# EAGLE library part RECEPTACLE-2X20-254MM (library comms)
.100” [2.54 mm] Contact Centers, 2x20 Female Header, Vertical/SMT
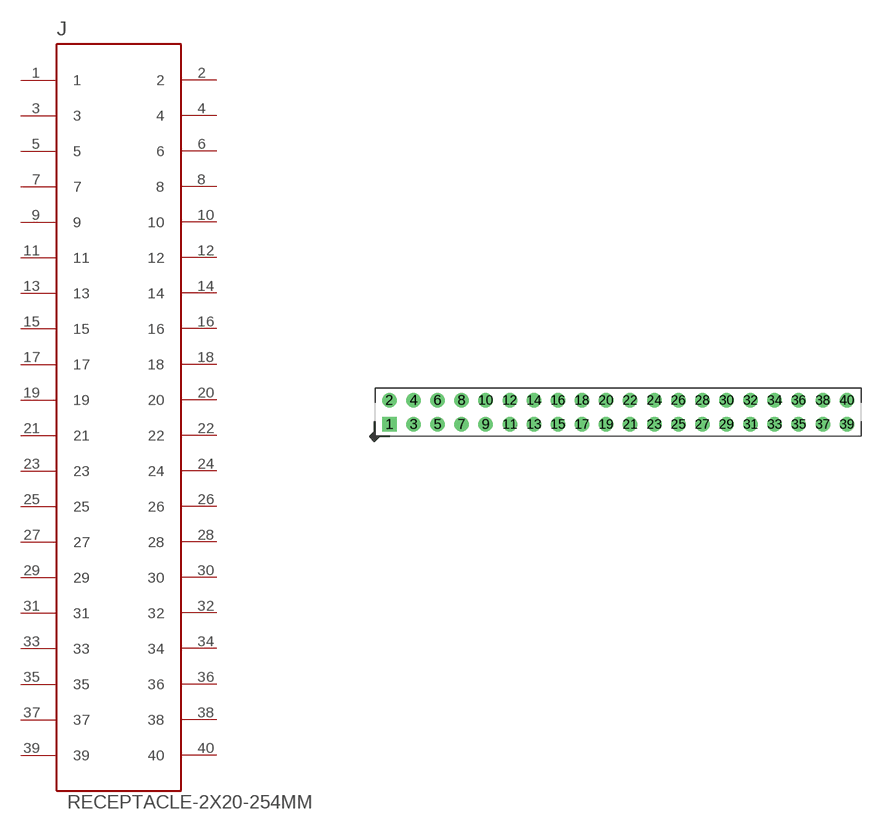
[diagram p9: symbol with the pads of HEADER-2X20-254MM; footprint HEADER-2X20-254MM]

Designator prefix J

## RECEPTACLE-2X20-254MM (FINISH: Gold; MANUFACTURER: Sullins Connector Solutions; MANUFACTURER_PN: SFH11-PBPC-D20-ST-BK; MAX_CURRENT: 3A; MOUNT_ANGLE: Vertical; MOUNT_TYPE: TH; PITCH: 2.54mm; POSITIONS: 40; ROWS: 2; VALUE: RECEPTACLE-2x20-254MM; VENDOR: Digi-Key; VENDOR_PN: S9200-ND)  [HEADER-2X20-254MM]
1  1
2  2
3  3
4  4
5  5
6  6
7  7
8  8
9  9
10  10
11  11
12  12
13  13
14  14
15  15
16  16
17  17
18  18
19  19
20  20
21  21
22  22
23  23
24  24
25  25
26  26
27  27
28  28
29  29
30  30
31  31
32  32
33  33
34  34
35  35
36  36
37  37
38  38
39  39
40  40

## Footprint HEADER-2X20-254MM (pad centres in mm)
.100” [2.54 mm] Contact Centers, 2x20 Female Header, Vertical/SMT
drill 1.02 pad 1.52 square: 1 -24.13,-1.27
drill 1.02 pad 1.52: 2 -24.13,1.27; 3 -21.59,-1.27; 4 -21.59,1.27; 5 -19.05,-1.27; 6 -19.05,1.27; 7 -16.51,-1.27; 8 -16.51,1.27; 9 -13.97,-1.27; 10 -13.97,1.27; 11 -11.43,-1.27; 12 -11.43,1.27; 13 -8.89,-1.27; 14 -8.89,1.27; 15 -6.35,-1.27; 16 -6.35,1.27; 17 -3.81,-1.27; 18 -3.81,1.27; 19 -1.27,-1.27; 20 -1.27,1.27; 21 1.27,-1.27; 22 1.27,1.27; 23 3.81,-1.27; 24 3.81,1.27; 25 6.35,-1.27; 26 6.35,1.27; 27 8.89,-1.27; 28 8.89,1.27; 29 11.43,-1.27; 30 11.43,1.27; 31 13.97,-1.27; 32 13.97,1.27; 33 16.51,-1.27; 34 16.51,1.27; 35 19.05,-1.27; 36 19.05,1.27; 37 21.59,-1.27; 38 21.59,1.27; 39 24.13,-1.27; 40 24.13,1.27